# Altium schematic symbol library FFC3B07-06-T.SchLib: 1 symbol
Pins are listed as number, name and electrical type; pins without a type are passive.

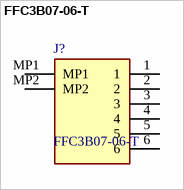
[diagram p0: symbol FFC3B07-06-T]

## FFC3B07-06-T
designator J?
06W, 1.0MM FFC CONN, R/A,BOT CON; Manufacturer_Name: GCT (GLOBAL CONNECTOR TECHNOLOGY); Geometry.Height: 2.65mm; TME Electronic Components Part Number: *; TME Electronic Components Price/Stock: *; Manufacturer_Part_Number: FFC3B07-06-T; Datasheet Link: https://gct.co/connector/ffc3b07
footprint FFC3B0706T
pins: 1, 2, 3, 4, 5, 6, MP1, MP2